# Altium footprint library AFlotador_PcbLib.PcbLib: 13 footprints
Each footprint in its own frame and in the unit in brackets; x right, y up, seen from the top. Pads: shape width x height; smd on the part's side, far side on the other; paste and mask are expansions set on the pad; w line width, h text height; cw(c..) or ccw(c..) is an arc to the next point about the centre after c.
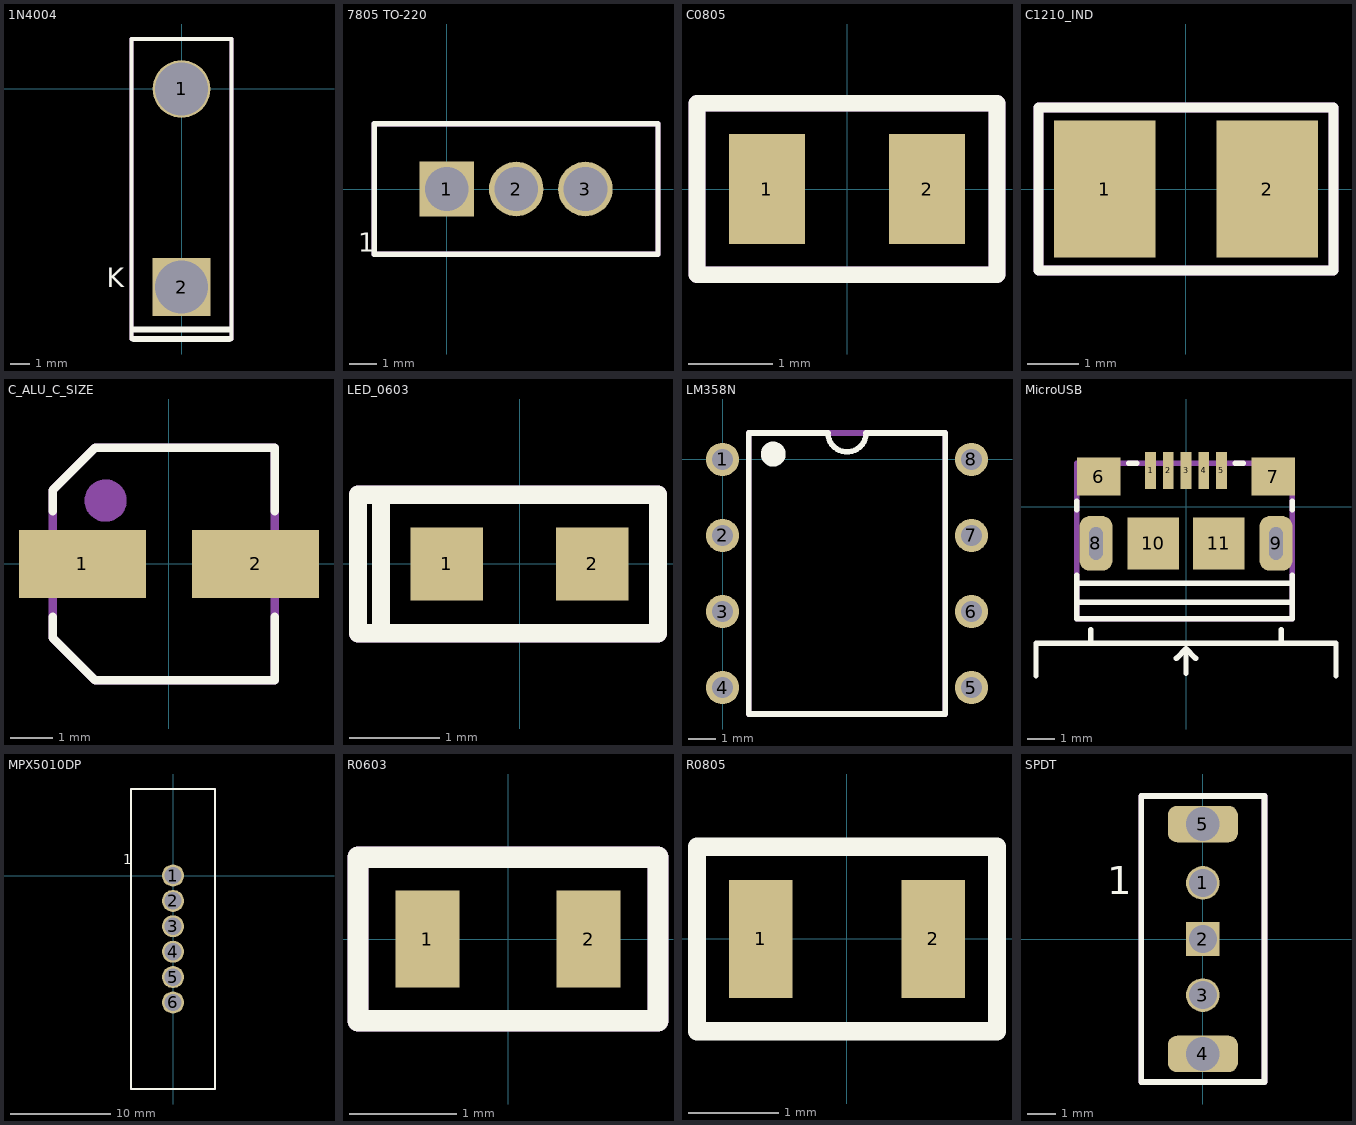
[diagram p0: the footprints below, top view; thin cyan lines are the x and y axes]

## 1N4004 [mm]
pads (2):
  round 3 hole 2.75: 1(0,0)
  rect 3x3 hole 2.75: 2(0,-10.3)
Top Overlay:
  lines w0.2: -2.6,-13 -2.6,2.6 2.6,2.6 2.6,-13
  lines w0.3: -2.5,-13 2.5,-13 ; -2.5,-12.5 2.5,-12.5
  text "K" at -3.9,-10.3 h1
Mechanical 1:
  lines w0.2: -2.6,-13 2.6,-13 2.6,2.6 -2.6,2.6 -2.6,-13
  text "'.Designator'" at -0.7,-9.4 h1
3D body "1N4004.step": height 3.01, standoff -2, extent -1.01,-10.555 1.01,0.155

## 7805 TO-220 [mm]
pads (3):
  rect 2x2 hole 1.6: 1(0,0)
  round 2 hole 1.6: 2(2.54,0) 3(5.08,0)
Top Overlay:
  lines w0.2: -2.66,-2.4 7.74,-2.4 7.74,2.4 -2.66,2.4 -2.66,-2.4
  text "1" at -3.26,-2.3 h0.7
Mechanical 1:
  lines w0.2: -2.66,-2.4 -2.66,2.4 7.74,2.4 7.74,-2.4 -2.66,-2.4
  text "'.Designator'" at -0.66,-0.2 h1
3D body "L7805 TO-220.step": height 22.95, standoff -5.86, extent -2.54,-2.095 7.62,2.1

## C0805 [mm]
pads (2):
  rect 0.9x1.3 smd: 1(-0.95,0) 2(0.95,0)
Top Overlay:
  lines w0.2: -1.778,-1.016 -1.778,1.016 1.778,1.016 1.778,-1.016 -1.778,-1.016
Mechanical 29 (Mech29):
  lines w0.2: -1.778,-1.016 1.778,-1.016 1.778,1.016 -1.778,1.016 -1.778,-1.016
  text "'.Designator'" at -1.27,-0.254 h0.6
3D body "CAPC2012X145N EIA 0805.step": height 1.46, standoff 0.01, extent -1,-0.6 1,0.6

## C1210_IND [mm]
pads (2):
  rect 2x2.7 smd: 1(-1.6,0) 2(1.6,0)
Top Overlay:
  lines w0.2: -2.9,-1.6 2.9,-1.6 2.9,1.6 -2.9,1.6 -2.9,-1.6
Mechanical 29 (Mech29):
  lines w0.2: -2.9,-1.6 -2.9,1.6 2.9,1.6 2.9,-1.6 -2.9,-1.6
  text "'.Designator'" at -2.2,-0.4 h1
3D body: height 2.7, standoff -0.01, extent -1.6,-1.25 -1.3,1.25
3D body: height 2.7, standoff -0.01, extent 1.3,-1.25 1.6,1.25
3D body: height 2.7, standoff -0.01, extent -1.3,-1.25 1.3,1.25

## C_ALU_C_SIZE [mm]
pads (2):
  rect 3x1.6 smd: 1(-2.05,0) 2(2.05,0)
Top Overlay:
  lines w0.2: -2.75,-1.25 -2.75,-1.75 -1.75,-2.75 2.5,-2.75 2.5,-1.25 ; -2.75,1.25 -2.75,1.75 -1.75,2.75 2.5,2.75 2.5,1.25
Mechanical 29 (Mech29):
  circle w0.5: c-1.5,1.5 r0.25
  lines w0.2: -2.75,-1.75 -1.75,-2.75 2.5,-2.75 2.5,2.75 -1.75,2.75 -2.75,1.75 -2.75,-1.75
  text "'.Designator'" at -1.75,-1 h1.3
3D body "Capacitor size C.step": height 5.42, standoff 0.01, extent -2.95,-2.65 2.95,2.65

## LED_0603 [mm]
pads (2):
  rect 0.8x0.8 smd: 1(-0.8,0) 2(0.8,0)
Top Overlay:
  lines w0.2: -1.524,-0.762 -1.778,-0.762 -1.778,0.762 -1.524,0.762 ; -1.524,-0.762 1.524,-0.762 1.524,0.762 -1.524,0.762 ; -1.524,-0.762 -1.524,0.762
Mechanical 29 (Mech29):
  lines w0.2: -1.778,-0.762 1.524,-0.762 1.524,0.762 -1.778,0.762 -1.778,-0.762
  text "'.Designator'" at -1.524,-0.508 h0.6
3D body: height 0.67, standoff 0.51, extent -0.2,-0.2 0.2,0.2
3D body "LED SMD 0603.step": height 0.66, standoff 0.01, extent -0.85,-0.4 0.85,0.4

## LM358N [mm]
pads (8):
  round 1.2 hole 0.75: 1(0,0) 2(0,-2.75) 3(0,-5.5) 4(0,-8.25) 5(9,-8.25) 6(9,-5.5) 7(9,-2.75) 8(9,0)
Top Overlay:
  circle w0.5: c1.833,0.193 r0.2
  lines w0.2: 0.944,-9.205 8.056,-9.205 8.056,0.955 5.187,0.955 cw(c4.5,0.955) 3.812,0.955 0.944,0.955 0.944,-9.205
Mechanical 29 (Mech29):
  lines w0.2: 0.944,-9.205 0.944,0.955 8.056,0.955 8.056,-9.205 0.944,-9.205
  text "'.Designator'" at 4.572,-7.874 h1
3D body: height 5.1, standoff -2.2, extent 2.214,1.717 2.214,1.717
3D body: height 4.06, standoff 3.81, extent 0.762,-0.762 1.778,0.254
3D body: height 3.81, standoff 0, extent 0,-9.205 9,0.955

## MicroUSB [mm]
pads (11):
  rect 0.4x1.35 smd mask+0.05: 1(-1.3,1.338) 2(-0.65,1.338) 3(0,1.338) 4(0.65,1.338) 5(1.3,1.338)
  rect 1.6x1.4 smd: 6(-3.2,1.112) 7(3.2,1.112)
  rrect60% 1.2x2 hole 0.5 slot 1.2 at 90 deg: 8(-3.3,-1.338) 9(3.3,-1.338)
  rect 1.9x1.9 smd: 10(-1.2,-1.338) 11(1.2,-1.338)
Top Overlay:
  lines w0.2: -5.5,-6.2 -5.5,-5 5.5,-5 5.5,-6.2 ; -4,-3.5 3.9,-3.5 ; -4,-2.8 3.9,-2.8 ; -4,-2.5 -4,-4.1 3.9,-4.1 3.9,-2.5 ; -4,-0.1 -4,0.2 ; -3.5,-4.9 -3.5,-4.5 ; -2.1,1.6 -1.8,1.6 ; -0.35,-5.55 0,-5.2 ; 0,-6.1 0,-5.2 ; 0,-5 0.1,-5 ; 0.35,-5.55 0,-5.2 ; 1.8,1.6 2.1,1.6 ; 3.5,-5 3.5,-4.5 ; 3.9,-0.1 3.9,0.2
Mechanical 29 (Mech29):
  lines w0.2: -4,-4.1 3.9,-4.1 3.9,1.6 -4,1.6 -4,-4.1
  text "'.Designator'" at -2.4,-0.7 h1.5
3D body "10118193-0001lfc.stp": height 2.87, standoff -0.73, extent -3.928,-4.123 3.928,1.538

## MPX5010DP [mm]
pads (6):
  round 2.2 hole 1.75: 1(0,0) 2(0,-2.54) 3(0,-5.08) 4(0,-7.62) 5(0,-10.16) 6(0,-12.7)
Top Overlay:
  lines w0.2: -4.2,-21.35 4.2,-21.35 4.2,8.65 -4.2,8.65 -4.2,-21.35
  text "1" at -5,1.1 h1
Mechanical 29 (Mech29):
  lines w0.2: -4.2,-21.35 4.2,-21.35 4.2,8.65 -4.2,8.65 -4.2,-21.35
  text "'.Designator'" at -1.4,-7.45 h1
3D body: height 29.4, standoff 18.2, extent -2.54,-20.287 2.54,-15.213
3D body: height 29.4, standoff 18.2, extent -2.54,2.513 2.54,7.587
3D body: height 18.2, standoff 0, extent -4.2,-21.35 4.2,8.65

## PCBComponent_1 [mm]

## R0603 [mm]
pads (2):
  rect 0.6x0.9 smd: 1(-0.75,0) 2(0.75,0)
Top Overlay:
  lines w0.2: -1.397,-0.762 1.397,-0.762 1.397,0.762 -1.397,0.762 -1.397,-0.762
Mechanical 29 (Mech29):
  lines w0.2: -1.397,-0.762 1.397,-0.762 1.397,0.762 -1.397,0.762 -1.397,-0.762
  text "'.Designator'" at -1.016,-0.381 h0.6
3D body "R0603.step": height 0.85, standoff 0.01, extent -0.8,-0.4 0.8,0.4

## R0805 [mm]
pads (2):
  rect 0.7x1.3 smd: 1(-0.95,0) 2(0.95,0)
Top Overlay:
  lines w0.2: -1.651,-1.016 1.651,-1.016 1.651,1.016 -1.651,1.016 -1.651,-1.016
3D body "User Library-Chip Resistor2.step": height 0.71, standoff 0.01, extent -1,-0.6 1,0.6

## SPDT [mm]
pads (5):
  round 1.2 hole 1: 1(0,2) 3(0,-2)
  rect 1.2x1.2 hole 1: 2(0,0)
  rrect50% 2.5x1.3 hole 1.2: 4(0,-4.1)
  rrect50% 2.5x1.3 hole 1.2 mask+0.102: 5(0,4.1)
Top Overlay:
  lines w0.2: -2.2,-5.1 -2.2,5.1 2.2,5.1 2.2,-5.1 -2.2,-5.1
  text "1" at -3.4,1.6 h1
Mechanical 29 (Mech29):
  lines w0.2: -2.2,-5.1 2.2,-5.1 2.2,5.1 -2.2,5.1 -2.2,-5.1
  text "'.Designator'" at 0.6,-4.4 h1
3D body "SPDT.step": height 8, standoff -3.41, extent -2.15,-4.3 2.15,4.3